# EAGLE library part PIC32MX450F256H-I/MR (library johnmamish-microchip)
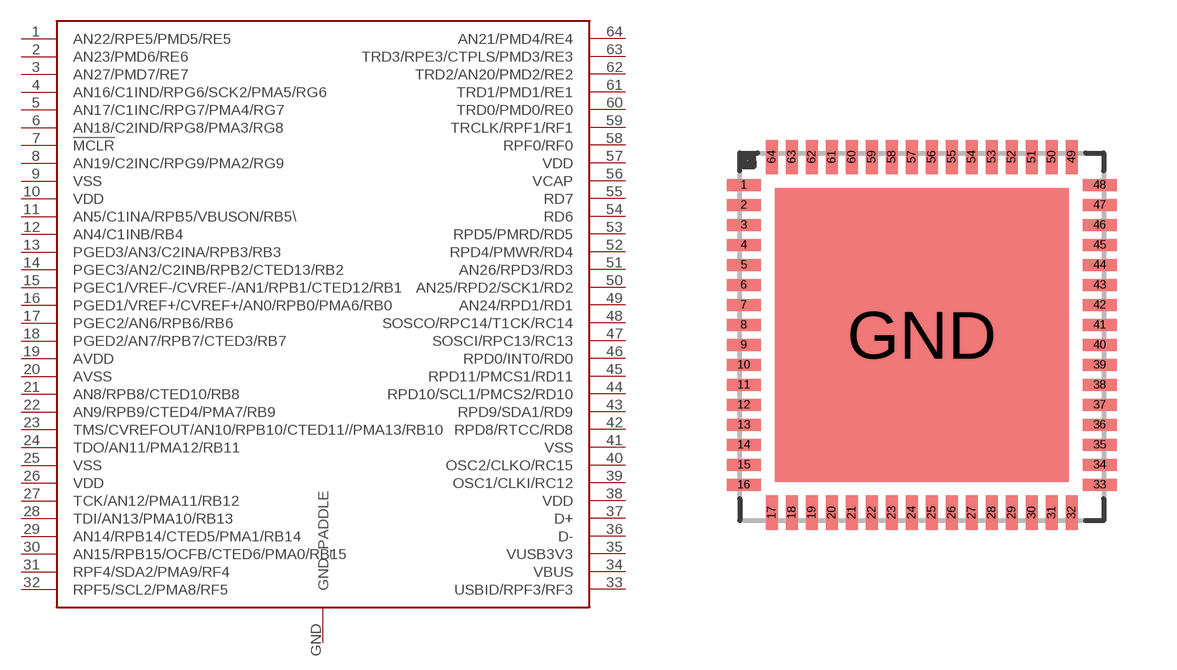
[diagram p2: symbol with the pads of QFN64-MICROCHIP; footprint QFN64-MICROCHIP]

Designator prefix -

## PIC32MX450F256H-I/MR  [QFN64-MICROCHIP]
1  AN22/RPE5/PMD5/RE5
2  AN23/PMD6/RE6
3  AN27/PMD7/RE7
4  AN16/C1IND/RPG6/SCK2/PMA5/RG6
5  AN17/C1INC/RPG7/PMA4/RG7
6  AN18/C2IND/RPG8/PMA3/RG8
7  !MCLR!
8  AN19/C2INC/RPG9/PMA2/RG9
9  VSS
10  VDD
11  AN5/C1INA/RPB5/VBUSON/RB5\
12  AN4/C1INB/RB4
13  PGED3/AN3/C2INA/RPB3/RB3
14  PGEC3/AN2/C2INB/RPB2/CTED13/RB2
15  PGEC1/VREF-/CVREF-/AN1/RPB1/CTED12/RB1
16  PGED1/VREF+/CVREF+/AN0/RPB0/PMA6/RB0
17  PGEC2/AN6/RPB6/RB6
18  PGED2/AN7/RPB7/CTED3/RB7
19  AVDD
20  AVSS
21  AN8/RPB8/CTED10/RB8
22  AN9/RPB9/CTED4/PMA7/RB9
23  TMS/CVREFOUT/AN10/RPB10/CTED11//PMA13/RB10
24  TDO/AN11/PMA12/RB11
25  VSS
26  VDD
27  TCK/AN12/PMA11/RB12
28  TDI/AN13/PMA10/RB13
29  AN14/RPB14/CTED5/PMA1/RB14
30  AN15/RPB15/OCFB/CTED6/PMA0/RB15
31  RPF4/SDA2/PMA9/RF4
32  RPF5/SCL2/PMA8/RF5
33  USBID/RPF3/RF3
34  VBUS
35  VUSB3V3
36  D-
37  D+
38  VDD
39  OSC1/CLKI/RC12
40  OSC2/CLKO/RC15
41  VSS
42  RPD8/RTCC/RD8
43  RPD9/SDA1/RD9
44  RPD10/SCL1/PMCS2/RD10
45  RPD11/PMCS1/RD11
46  RPD0/INT0/RD0
47  SOSCI/RPC13/RC13
48  SOSCO/RPC14/T1CK/RC14
49  AN24/RPD1/RD1
50  AN25/RPD2/SCK1/RD2
51  AN26/RPD3/RD3
52  RPD4/PMWR/RD4
53  RPD5/PMRD/RD5
54  RD6
55  RD7
56  VCAP
57  VDD
58  RPF0/RF0
59  TRCLK/RPF1/RF1
60  TRD0/PMD0/RE0
61  TRD1/PMD1/RE1
62  TRD2/AN20/PMD2/RE2
63  TRD3/RPE3/CTPLS/PMD3/RE3
64  AN21/PMD4/RE4
GND  GND_PADDLE

## Footprint QFN64-MICROCHIP (pad centres in mm)
smd 0.85 x 0.3: 1 0,0; 2 0,-0.5; 3 0,-1; 4 0,-1.5; 5 0,-2; 6 0,-2.5; 7 0,-3; 8 0,-3.5; 9 0,-4; 10 0,-4.5; 11 0,-5; 12 0,-5.5; 13 0,-6; 14 0,-6.5; 15 0,-7; 16 0,-7.5; 33 8.9,-7.5; 34 8.9,-7; 35 8.9,-6.5; 36 8.9,-6; 37 8.9,-5.5; 38 8.9,-5; 39 8.9,-4.5; 40 8.9,-4; 41 8.9,-3.5; 42 8.9,-3; 43 8.9,-2.5; 44 8.9,-2; 45 8.9,-1.5; 46 8.9,-1; 47 8.9,-0.5; 48 8.9,0
smd 0.3 x 0.85: 17 0.7,-8.2; 18 1.2,-8.2; 19 1.7,-8.2; 20 2.2,-8.2; 21 2.7,-8.2; 22 3.2,-8.2; 23 3.7,-8.2; 24 4.2,-8.2; 25 4.7,-8.2; 26 5.2,-8.2; 27 5.7,-8.2; 28 6.2,-8.2; 29 6.7,-8.2; 30 7.2,-8.2; 31 7.7,-8.2; 32 8.2,-8.2; 49 8.2,0.7; 50 7.7,0.7; 51 7.2,0.7; 52 6.7,0.7; 53 6.2,0.7; 54 5.7,0.7; 55 5.2,0.7; 56 4.7,0.7; 57 4.2,0.7; 58 3.7,0.7; 59 3.2,0.7; 60 2.7,0.7; 61 2.2,0.7; 62 1.7,0.7; 63 1.2,0.7; 64 0.7,0.7
smd 7.35 x 7.35: GND 4.45,-3.75